# Altium schematic symbol library Components - esd protect.SchLib: 1 symbol
Pins are listed as number, name and electrical type; pins without a type are passive.

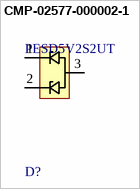
[diagram p0: symbol CMP-02577-000002-1]

## CMP-02577-000002-1
designator D?, comment PESD5V2S2UT
TVS DIODE 5V  SOT23-3; Manufacturer: Vishay; Manufacturer Part Number: GSOT15C-E3-08; Peak Pulse Power: 345W; Automotive Grade: Grade 0; Max Junction Temp: +150°C; Reverse Standoff Voltage: 15V; Value: 35pF; Breakdown Voltage: 16.5V; Peak Pulse Current: 8A; Number Of Channels: 2; Clamping Voltage: 24.8V; Direction: Unidirectional; Category: Diode; Device Class L3: unset; ComponentLink2URL: http://www.vishay.com/docs/85824/gsot03c.pdf; Lead Free: Yes; Mouser Description: GSOT15C Series 12.3 V 120 pF SMT Bi-Directional ESD Protection Diode - SOT-23; Height: 1.15mm; Temperature Range High: +150°C; Automotive: Yes; RoHS: TRUE; ComponentLink2Description: Datasheet; Capacitance: 35pF; Device Class L1: Circuit Protection; Package: 6.541-5014.01-4; Octopart: https://octopart.com/gsot15c-e3-08-vishay-46467627; Device Class L2: TVS Diodes; Temperature: -55°C to +150°C; Temperature Range Low: -55°C; Digikey Description: TVS DIODE 15V 28.8V SOT23-3
footprint FP-6_541-5014_01-4-IPC_A
footprint FP-6_541-5014_01-4-IPC_B
footprint FP-6_541-5014_01-4-IPC_C
footprint FP-6_541-5014_01-4-MFG
pins: 1 1 CATHODE, 2 2 CATHODE, 3 COMMON ANODE